# Altium schematic symbol library SCH - POWER - LINEAR VREG - TI TPS76901-HT_HKJ_8.SchLib: 1 symbol
Pins are listed as number, name and electrical type; pins without a type are passive.

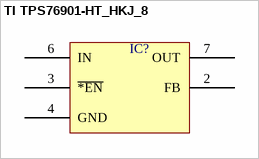
[diagram p0: symbol TI TPS76901-HT_HKJ_8]

## TI TPS76901-HT_HKJ_8
designator IC?  (value not drawn)
pins: 2 FB, 3 ~{*EN}, 4 GND, 6 IN, 7 OUT